# Altium schematic symbol library AC to DC Converters.SchLib: 2 symbols
Pins are listed as number, name and electrical type; pins without a type are passive.

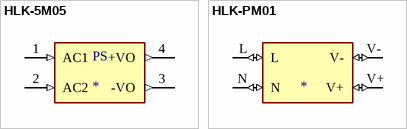
[diagram p0: symbols HLK-5M05 to HLK-PM01]

## HLK-5M05
designator PS
AC DC 220V to 5V 5W 5Watt Isolated Switching Step-Down Power Supply Module Converter; MF: Hi-link; MP: HLK-5M05; Availability: Unavailable; SnapEDA_Link: https://www.snapeda.com/parts/HLK-5M05/Hi-link/view-part/2758659/?ref=snap; Price: None; Package: Package Analog Devices; Value: *
footprint HLK-5M05
pins: 1 AC1 (in), 2 AC2 (in), 3 -VO (out), 4 +VO (out)

## HLK-PM01
designator ?
MP: hlk-pm01; MF: Hi-link; Availability: Unavailable; Package: Package Analog Devices; Value: *; Price: None; SnapEDA_Link: https://www.snapeda.com/parts/hlk-pm01/Hi-link/view-part/2875605/?ref=snap
footprint HLK-PM01
pins: L (io), N (io), V+ (io), V- (io)